# Altium schematic symbol library HDR6_F.SchLib: 1 symbol
Pins are listed as number, name and electrical type; pins without a type are passive.

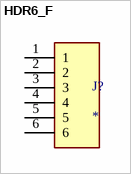
[diagram p0: symbol HDR6_F]

## HDR6_F
designator J?
MP: HTSW-106-07-S-S; Availability: Unavailable; Value: *; Price: None; Package: None
footprint SAMTEC_HTSW-106-07-S-S
pins: 1, 2, 3, 4, 5, 6